# Altium footprint library LYDZ.PcbLib: 231 footprints (part 14 of 15)
Each footprint in its own frame and in the unit in brackets; x right, y up, seen from the top. Pads: shape width x height; smd on the part's side, far side on the other; paste and mask are expansions set on the pad; w line width, h text height; cw(c..) or ccw(c..) is an arc to the next point about the centre after c.
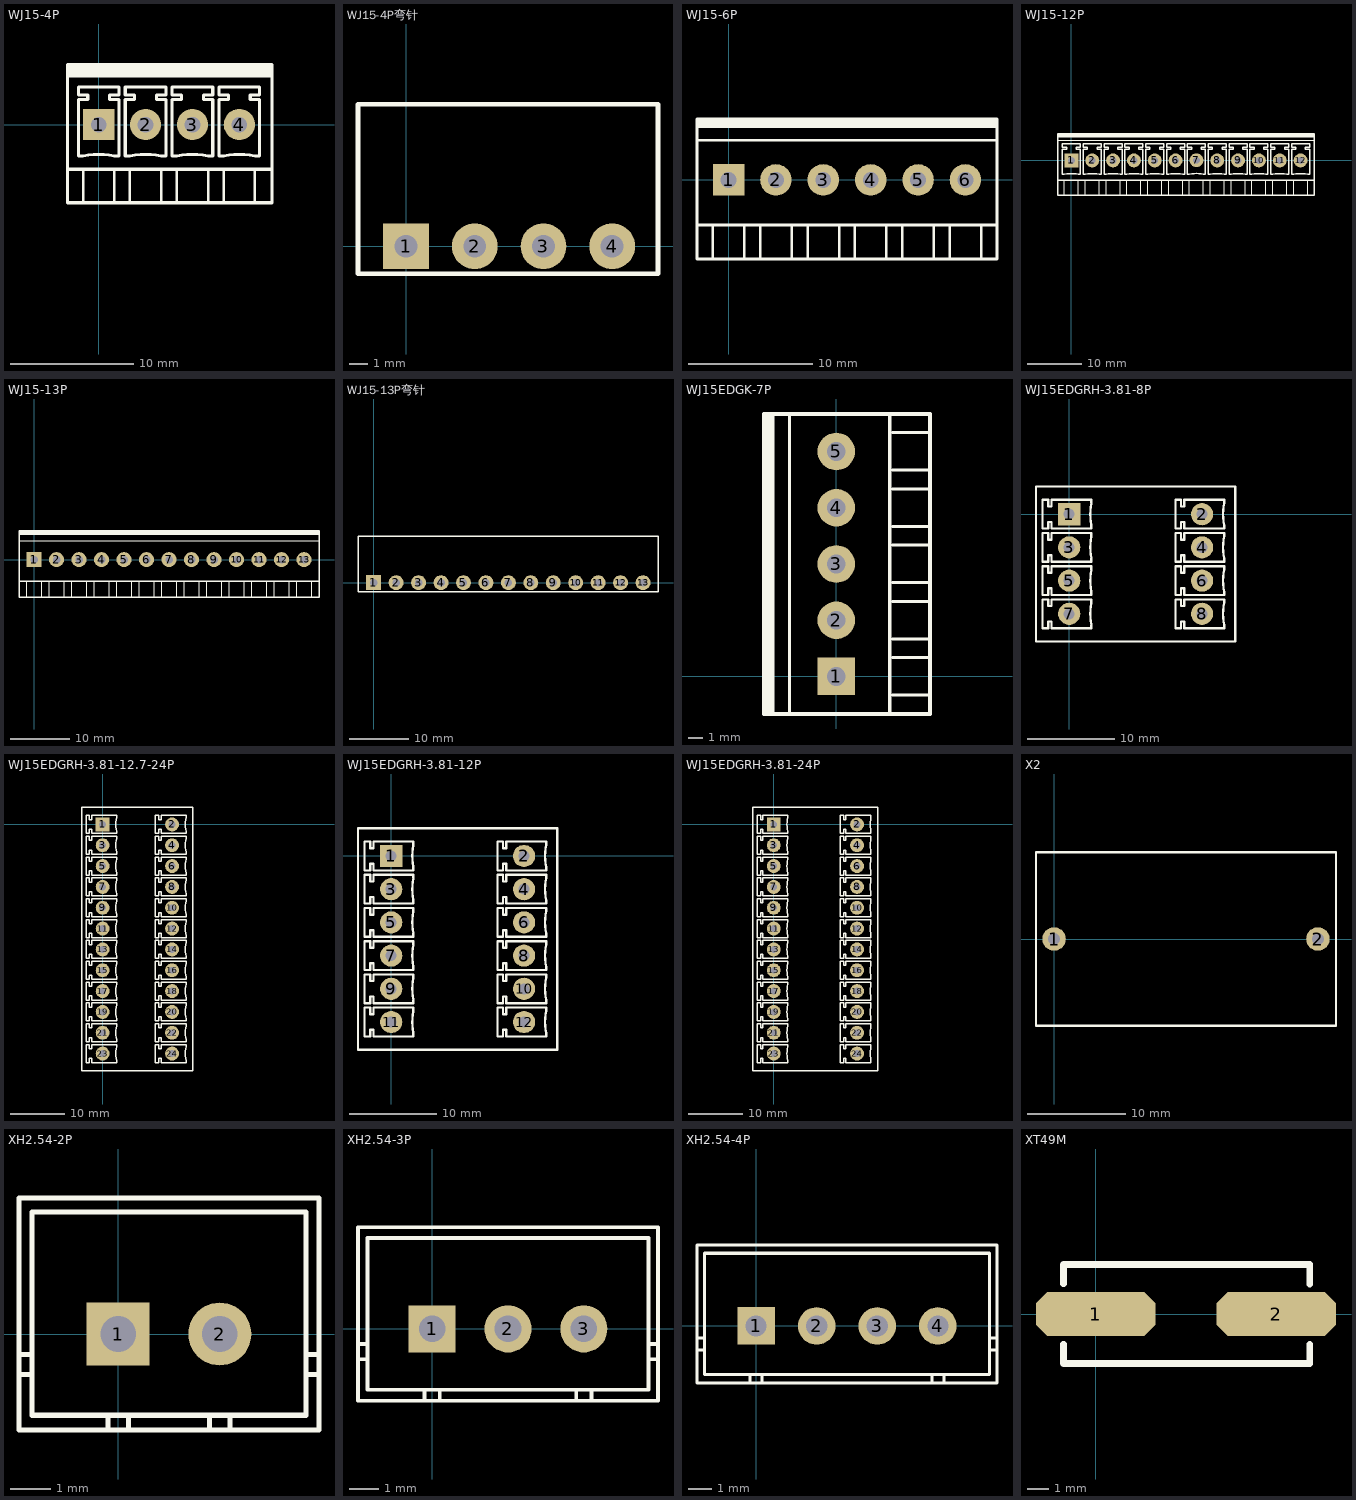
[diagram p13: the footprints below, top view; thin cyan lines are the x and y axes]

## WJ15-4P [mil]
pads (4):
  rect 100x100 hole 50: 1(0,0)
  round 100 hole 50: 2(150,0) 3(300,0) 4(450,0)
Top Overlay:
  rectangle: -100,150 555,192.91
  lines w8: -50,-250 -50,-143 ; 50,-250 50,-143 ; 100,-250 100,-143 ; 200,-250.5 200,-143.5 ; 250,-250 250,-143 ; 350,-245 350,-145 ; 400,-250 400,-143 ; 500,-245 500,-145
  lines w10: -100,-125 -100,-250 555,-250 555,192.91 -100,192.91 -100,-142.72 550,-142.72 ; -65,-100 -65,80 -35,80 -35,95 -65,95 -65,120 0,120 65,120 65,95 35,95 35,80 65,80 65,-100 50,-100 ccw(c0,-350) -50,-100 -65,-100 ; 85,-100 100,-100 cw(c150,-350) 200,-100 215,-100 215,80 185,80 185,95 215,95 215,120 150,120 85,120 85,95 115,95 115,80 85,80 85,-100 ; 235,-100 250,-100 cw(c300,-350) 350,-100 365,-100 365,80 335,80 335,95 365,95 365,120 300,120 235,120 235,95 265,95 265,80 235,80 235,-100 ; 385,-100 400,-100 cw(c450,-350) 500,-100 515,-100 515,80 485,80 485,95 515,95 515,120 450,120 385,120 385,95 415,95 415,80 385,80 385,-100

## WJ15-4P弯针 [mil]
pads (4):
  rect 100x100 hole 50: 1(0,0)
  round 100 hole 50: 2(150,0) 3(300,0) 4(450,0)
Top Overlay:
  lines w10: -105,-60 -105,310 550,310 550,-60 -105,-60

## WJ15-6P [mil]
pads (6):
  rect 100x100 hole 50: 1(0,0)
  round 100 hole 50: 2(150,0) 3(300,0) 4(450,0) 5(600,0) 6(750,0)
Top Overlay:
  lines w8: -100,125 850,125 ; -50,-250 -50,-143 ; 50,-250 50,-143 ; 100,-250 100,-143 ; 200,-250.5 200,-143.5 ; 250,-250 250,-143 ; 350,-245 350,-145 ; 400,-250 400,-143 ; 500,-245 500,-145 ; 550,-250.5 550,-143.5 ; 650,-250.5 650,-143.5 ; 700,-249.5 700,-142.5 ; 800,-249.5 800,-142.5 ; 850,-249.5 850,-142.5
  lines w10: -100,-125 -100,-250 850,-250 850,193 ; -100,169.29 850,169.29 ; -100,177.17 850,177.17 ; -100,185 850,185 ; 850,-142.72 -100,-142.72 -100,192.91 850,192.91

## WJ15-12P [mil]
pads (12):
  rect 100x100 hole 50: 1(0,0)
  round 100 hole 50: 2(150,0) 3(300,0) 4(450,0) 5(600,0) 6(750,0) 7(900,1) 8(1050,0) 9(1200,0) 10(1350,0) 11(1500,0) 12(1650,0)
Top Overlay:
  drawing of 215 lines, arcs and shapes, not listed

## WJ15-13P [mil]
pads (13):
  rect 100x100 hole 50: 1(0,0)
  round 100 hole 50: 2(150,0) 3(300,0) 4(450,0) 5(600,0) 6(750,0) 7(900,1) 8(1050,0) 9(1200,0) 10(1350,0) 11(1500,0) 12(1650,0) 13(1800,0)
Top Overlay:
  lines w8: -100,125 1900,125 ; -50,-250 -50,-143 ; 50,-250 50,-143 ; 100,-250 100,-143 ; 200,-250.5 200,-143.5 ; 250,-250 250,-143 ; 350,-245 350,-145 ; 400,-250 400,-143 ; 500,-245 500,-145 ; 550,-250.5 550,-143.5 ; 650,-250.5 650,-143.5 ; 700,-249.5 700,-142.5 ; 800,-249.5 800,-142.5 ; 850,-249.5 850,-142.5 ; 950,-250.5 950,-143.5 ; 1000,-250.5 1000,-143.5 ; 1100,-249.5 1100,-142.5 ; 1150,-250 1150,-143 ; 1250,-248.5 1250,-141.5 ; 1300,-249.5 1300,-142.5 ; 1400,-250.5 1400,-143.5 ; 1450,-249.5 1450,-142.5 ; 1550,-250.5 1550,-143.5 ; 1600,-249.5 1600,-142.5 ; 1700,-248.5 1700,-141.5 ; 1750,-248.5 1750,-141.5 ; 1850,-248.5 1850,-141.5
  lines w10: -100,-125 -100,-250 1900,-250 1900,193 ; -100,169.29 1900,169.29 ; -100,177.17 1900,177.17 ; -100,185 1900,185 ; 1900,-142.72 -100,-142.72 -100,192.91 1900,192.91

## WJ15-13P弯针 [mil]
pads (13):
  rect 100x100 hole 50: 1(0,0)
  round 100 hole 50: 2(150,0) 3(300,0) 4(450,0) 5(600,0) 6(750,0) 7(900,0) 8(1050,0) 9(1200,0) 10(1350,0) 11(1500,0) 12(1650,0) 13(1800,0)
Top Overlay:
  lines w10: -105,-60 -105,310 1900,310 1900,-60 -105,-60

## WJ15EDGK-7P [mil]
pads (5):
  rect 100x100 hole 50: 1(0,0)
  round 100 hole 50: 2(0,150) 3(0,300) 4(0,450) 5(0,600)
Top Overlay:
  lines w8: -125,-100 -125,700 ; 150,-50 250,-50 ; 150,50 250,50 ; 150,100 250,100 ; 150,200 225,200 250,200 ; 150,250 250,250 ; 150,350 250,350 ; 150,400 250,400 ; 150,500 250,500 ; 150,550 250,550 ; 150,650 250,650
  lines w10: -185.04,-100 -185.04,700 ; -177.17,-100 -177.17,700 ; -169.29,-100 -169.29,700 ; 125,-100 250,-100 250,700 -192.91,700 -192.91,-100 142.72,-100 142.72,700

## WJ15EDGRH-3.81-8P [mil]
pads (8):
  rect 100x100 hole 50: 1(0,0)
  round 100 hole 50: 2(600,0) 3(0,-150) 4(600,-150) 5(0,-300) 6(600,-300) 7(0,-450) 8(600,-450)
Top Overlay:
  lines w10: -150,-575 -150,125 750,125 750,-575 -150,-575 ; -120,-515 -95,-515 -95,-485 -80,-485 -80,-515 100,-515 100,-500 cw(c350,-450) 100,-400 100,-385 -80,-385 -80,-415 -95,-415 -95,-385 -120,-385 -120,-450 -120,-515 ; -120,-365 -95,-365 -95,-335 -80,-335 -80,-365 100,-365 100,-350 cw(c350,-300) 100,-250 100,-235 -80,-235 -80,-265 -95,-265 -95,-235 -120,-235 -120,-300 -120,-365 ; -120,-215 -95,-215 -95,-185 -80,-185 -80,-215 100,-215 100,-200 cw(c350,-150) 100,-100 100,-85 -80,-85 -80,-115 -95,-115 -95,-85 -120,-85 -120,-150 -120,-215 ; -120,-65 -95,-65 -95,-35 -80,-35 -80,-65 100,-65 100,-50 cw(c350,0) 100,50 100,65 -80,65 -80,35 -95,35 -95,65 -120,65 -120,0 -120,-65 ; 480,-515 505,-515 505,-485 520,-485 520,-515 700,-515 700,-500 cw(c950,-450) 700,-400 700,-385 520,-385 520,-415 505,-415 505,-385 480,-385 480,-450 480,-515 ; 480,-365 505,-365 505,-335 520,-335 520,-365 700,-365 700,-350 cw(c950,-300) 700,-250 700,-235 520,-235 520,-265 505,-265 505,-235 480,-235 480,-300 480,-365 ; 480,-215 505,-215 505,-185 520,-185 520,-215 700,-215 700,-200 cw(c950,-150) 700,-100 700,-85 520,-85 520,-115 505,-115 505,-85 480,-85 480,-150 480,-215 ; 480,-65 505,-65 505,-35 520,-35 520,-65 700,-65 700,-50 cw(c950,0) 700,50 700,65 520,65 520,35 505,35 505,65 480,65 480,0 480,-65

## WJ15EDGRH-3.81-12.7-24P [mil]
pads (24):
  rect 100x100 hole 50: 1(0,0)
  round 100 hole 50: 2(500,0) 3(0,-150) 4(500,-150) 5(0,-300) 6(500,-300) 7(0,-450) 8(500,-450) 9(0,-600) 10(500,-600) 11(0,-750) 12(500,-750) 13(0,-900) 14(500,-900) 15(0,-1050) 16(500,-1050) 17(0,-1200) 18(500,-1200) 19(0,-1350) 20(500,-1350) 21(0,-1500) 22(500,-1500) 23(0,-1650) 24(500,-1650)
Top Overlay:
  drawing of 364 lines, arcs and shapes, not listed

## WJ15EDGRH-3.81-12P [mil]
pads (12):
  rect 100x100 hole 50: 1(0,0)
  round 100 hole 50: 2(600,0) 3(0,-150) 4(600,-150) 5(0,-300) 6(600,-300) 7(0,-450) 8(600,-450) 9(0,-600) 10(600,-600) 11(0,-750) 12(600,-750)
Top Overlay:
  drawing of 184 lines, arcs and shapes, not listed

## WJ15EDGRH-3.81-24P [mil]
pads (24):
  rect 100x100 hole 50: 1(0,0)
  round 100 hole 50: 2(600,0) 3(0,-150) 4(600,-150) 5(0,-300) 6(600,-300) 7(0,-450) 8(600,-450) 9(0,-600) 10(600,-600) 11(0,-750) 12(600,-750) 13(0,-900) 14(600,-900) 15(0,-1050) 16(600,-1050) 17(0,-1200) 18(600,-1200) 19(0,-1350) 20(600,-1350) 21(0,-1500) 22(600,-1500) 23(0,-1650) 24(600,-1650)
Top Overlay:
  drawing of 364 lines, arcs and shapes, not listed

## X2 [mm]
pads (2):
  round 2.4 hole 1.2: 1(0,0) 2(27,0)
Top Overlay:
  lines w0.254: -1.85,-8.9 28.85,-8.9 28.85,8.9 -1.85,8.9 -1.85,-8.9

## XH2.54-2P [mil]
pads (2):
  rect 62x62 hole 35: 1(0,0)
  round 62 hole 35: 2(100,0)
Top Overlay:
  lines w5: -97.64,-40 -85,-40 ; -97.64,-20 -85,-20 ; -10,-94.49 -10,-80 ; 10,-94.49 10,-80 ; 90,-94.49 90,-80 ; 110,-94.49 110,-80 ; 185,-40 197.64,-40 ; 185,-20 197.64,-20 ; -97.64,-94.49 -97.64,133.86 197.64,133.86 197.64,-94.49 -97.64,-94.49 ; -85,-80 185,-80 185,120 -85,120 -85,-80

## XH2.54-3P [mil]
pads (3):
  rect 62x62 hole 35: 1(0,0)
  round 62 hole 35: 2(100,0) 3(200,0)
Top Overlay:
  lines w5: -97.64,-40 -85,-40 ; -97.64,-20 -85,-20 ; -10,-94.49 -10,-80 ; 10,-94.49 10,-80 ; 190,-94.49 190,-80 ; 210,-94.49 210,-80 ; 285,-40 297.64,-40 ; 285,-20 297.64,-20 ; -97.64,-94.49 -97.64,133.86 297.64,133.86 297.64,-94.49 -97.64,-94.49 ; -85,-80 285,-80 285,120 -85,120 -85,-80

## XH2.54-4P [mil]
pads (4):
  rect 62x62 hole 35: 1(0,0)
  round 62 hole 35: 2(100,0) 3(200,0) 4(300,0)
Top Overlay:
  lines w5: -97.64,-40 -85,-40 ; -97.64,-20 -85,-20 ; -10,-94.49 -10,-80 ; 10,-94.49 10,-80 ; 290,-94.49 290,-80 ; 310,-94.49 310,-80 ; 385,-40 397.64,-40 ; 385,-20 397.64,-20 ; -97.64,-94.49 397.64,-94.49 397.64,133.86 -97.64,133.86 -97.64,-94.49 ; -85,-80 -85,120 385,120 385,-80 -85,-80

## XT49M [mm]
pads (2):
  oct 5.55x2.05 smd: 1(0,0) 2(8.382,0)
Top Overlay:
  lines w0.305: -1.499,-1.397 -1.499,-2.3 9.931,-2.3 9.931,-1.397 ; -1.499,1.397 -1.499,2.3 9.931,2.3 9.931,1.372